# Altium footprint library Vishay Tansitor Footprints.PcbLib: 22 footprints (part 2 of 2)
Each footprint in its own frame and in the unit in brackets; x right, y up, seen from the top. Pads: shape width x height; smd on the part's side, far side on the other; paste and mask are expansions set on the pad; w line width, h text height; cw(c..) or ccw(c..) is an arc to the next point about the centre after c.
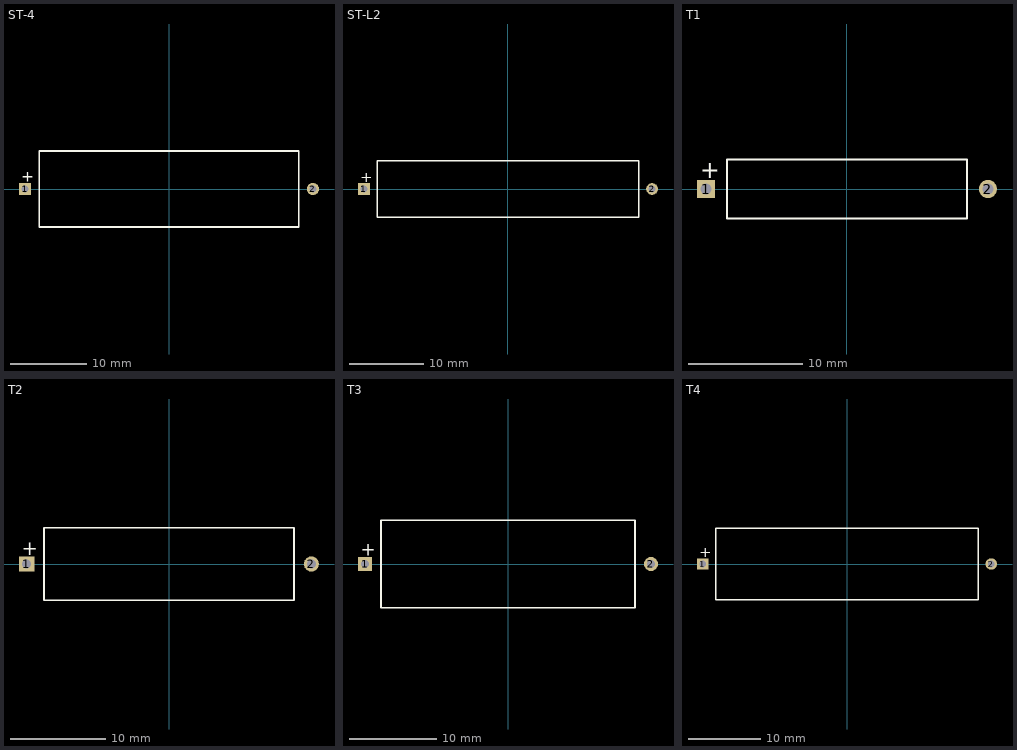
[diagram p1: the footprints below, top view; thin cyan lines are the x and y axes]

## ST-4 [mm] "Capacitor, Axial, Polarised; Body 27.8 x 9.9 mm (LxDia. max), Lead Dia. 0.66 mm (typ)"
height 10
pads (2):
  rect 1.6x1.6 hole 0.95: 1(-18.94,0)
  round 1.6 hole 0.95: 2(18.94,0)
Top Overlay:
  lines w0.2: -17.1,-5 17.1,-5 17.1,5 -17.1,5 -17.1,-5
  text "+" at -19.44,0.925 h1.5

## ST-L2 [mm] "Capacitor, Axial, Polarised; Body 26.4 x 7.5 mm (LxDia. max), Lead Dia. 0.66 mm (typ)"
height 7.6
pads (2):
  rect 1.6x1.6 hole 0.95: 1(-19.48,0)
  round 1.6 hole 0.95: 2(19.48,0)
Top Overlay:
  lines w0.2: -17.65,-3.8 -17.65,3.8 17.65,3.8 17.65,-3.8 -17.65,-3.8
  text "+" at -19.98,0.925 h1.5

## T1 [mm] "Capacitor, Axial, Polarised; Body 12.3 x 5.2 mm (LxDia. max), Lead Dia. 0.64 mm (typ)"
height 5.2
pads (2):
  rect 1.6x1.6 hole 0.95: 1(-12.38,0)
  round 1.6 hole 0.95: 2(12.38,0)
Top Overlay:
  lines w0.2: -10.55,-2.6 -10.55,2.6 10.55,2.6 10.55,-2.6 -10.55,-2.6
  text "+" at -12.88,0.925 h1.5

## T2 [mm] "Capacitor, Axial, Polarised; Body 17.1 x 7.5 mm (LxDia. max), Lead Dia. 0.64 mm (typ)"
height 7.6
pads (2):
  rect 1.6x1.6 hole 0.95: 1(-14.93,0)
  round 1.6 hole 0.95: 2(14.93,0)
Top Overlay:
  lines w0.2: -13.1,-3.8 13.1,-3.8 13.1,3.8 -13.1,3.8 -13.1,-3.8
  text "+" at -15.43,0.925 h1.5

## T3 [mm] "Capacitor, Axial, Polarised; Body 20.2 x 9.9 mm (LxDia. max), Lead Dia. 0.64 mm (typ)"
height 10
pads (2):
  rect 1.6x1.6 hole 0.95: 1(-16.33,0)
  round 1.6 hole 0.95: 2(16.33,0)
Top Overlay:
  lines w0.2: -14.5,-5 14.5,-5 14.5,5 -14.5,5 -14.5,-5
  text "+" at -16.83,0.925 h1.5

## T4 [mm] "Capacitor, Axial, Polarised; Body 27.8 x 9.9 mm (LxDia. max), Lead Dia. 0.64 mm (typ)"
height 10
pads (2):
  rect 1.6x1.6 hole 0.95: 1(-20.08,0)
  round 1.6 hole 0.95: 2(20.08,0)
Top Overlay:
  lines w0.2: -18.25,-5 -18.25,5 18.25,5 18.25,-5 -18.25,-5
  text "+" at -20.58,0.925 h1.5